# Altium schematic symbol library OSC_25MHZ.SchLib: 1 symbol
Pins are listed as number, name and electrical type; pins without a type are passive.

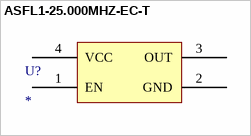
[diagram p0: symbol ASFL1-25.000MHZ-EC-T]

## ASFL1-25.000MHZ-EC-T
designator U?
footprint ASFL1
pins: 1 EN, 2 GND, 3 OUT, 4 VCC